# Altium footprint library MAX26404AFOAY&plus_.PcbLib: 1 footprints
Each footprint in its own frame and in the unit in brackets; x right, y up, seen from the top. Pads: shape width x height; smd on the part's side, far side on the other; paste and mask are expansions set on the pad; w line width, h text height; cw(c..) or ccw(c..) is an arc to the next point about the centre after c.
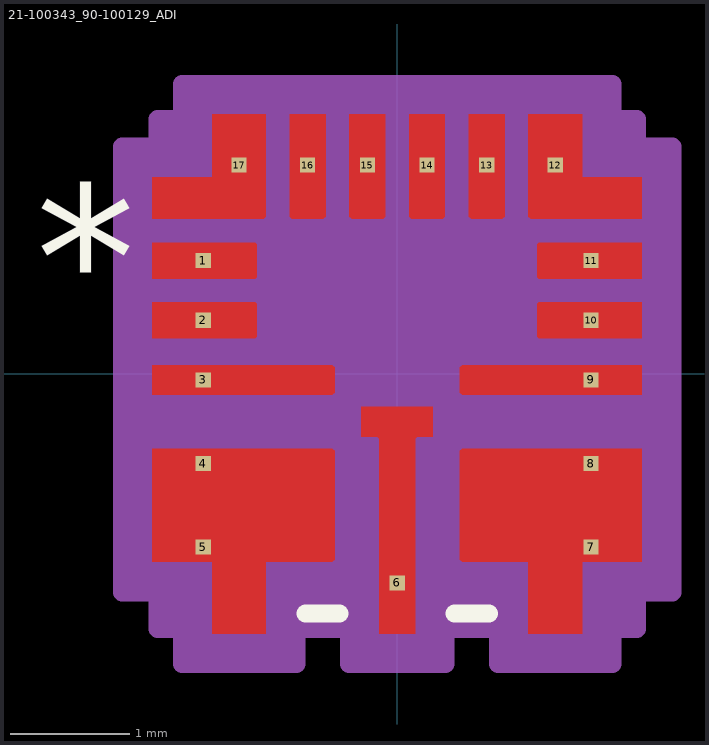
[diagram p0: the footprint, top view; thin cyan lines are the x and y axes]

## 21-100343_90-100129_ADI [mil]
pads (17):
  rect 5x5 smd paste-2.5 mask+0: 1(-63.98,37.4) 2(-63.98,17.72) 3(-63.98,-1.97) 4(-63.98,-29.53) 5(-63.98,-57.09) 6(0,-68.9) 7(63.98,-57.09) 8(63.98,-29.53) 9(63.98,-1.97) 10(63.98,17.72) 11(63.98,37.4) 12(52.17,68.9) 13(29.53,68.9) 14(9.84,68.9) 15(-9.84,68.9) 16(-29.53,68.9) 17(-52.17,68.9)
Top Layer:
  region: 21.41,-24.61 80.71,-24.61 80.71,-62.01 61.02,-62.01 61.02,-85.63 43.31,-85.63 43.31,-62.01 21.41,-62.01 20.67,-61.27 20.67,-25.34
  region: -21.41,-24.61 -80.71,-24.61 -80.71,-62.01 -61.02,-62.01 -61.02,-85.63 -43.31,-85.63 -43.31,-62.01 -21.41,-62.01 -20.67,-61.27 -20.67,-25.34
  region: -15.75,51.92 -15.75,85.63 -3.94,85.63 -3.94,51.92 -4.68,51.18 -15.01,51.18
  region: 3.94,51.92 3.94,85.63 15.75,85.63 15.75,51.92 15.01,51.18 4.68,51.18
  region: 23.62,51.92 23.62,85.63 35.43,85.63 35.43,51.92 34.69,51.18 24.36,51.18
  region: -46.75,43.31 -80.71,43.31 -80.71,31.5 -46.75,31.5 -46.26,31.99 -46.26,42.81
  region: -46.75,23.62 -80.71,23.62 -80.71,11.81 -46.75,11.81 -46.26,12.3 -46.26,23.13
  region: -35.43,51.92 -35.43,85.63 -23.62,85.63 -23.62,51.92 -24.36,51.18 -34.69,51.18
  region: -61.02,64.96 -80.71,64.96 -80.71,51.18 -44.05,51.18 -43.31,51.92 -43.31,85.63 -61.02,85.63
  region: 61.02,64.96 80.71,64.96 80.71,51.18 44.05,51.18 43.31,51.92 43.31,85.63 61.02,85.63
  region: 46.75,43.31 80.71,43.31 80.71,31.5 46.75,31.5 46.26,31.99 46.26,42.81
  region: 46.75,23.62 80.71,23.62 80.71,11.81 46.75,11.81 46.26,12.3 46.26,23.13
  region: 21.41,2.95 80.71,2.95 80.71,-6.89 21.41,-6.89 20.67,-6.15 20.67,2.21
  region: -21.41,2.95 -80.71,2.95 -80.71,-6.89 -21.41,-6.89 -20.67,-6.15 -20.67,2.21
  region: 11.81,-10.83 -11.81,-10.83 -11.81,-20.67 -6.64,-20.67 -5.91,-21.41 -5.91,-85.63 5.91,-85.63 5.91,-21.41 6.64,-20.67 11.81,-20.67
Top Overlay:
  lines w6: -30.21,-79 -19.01,-79 ; 19.01,-79 30.21,-79
  text "*" at -119.19,14.37 h50
Top Paste:
  region: -61.02,64.96 -80.71,64.96 -80.71,51.18 -44.05,51.18 -43.31,51.92 -43.31,85.63 -61.02,85.63
  region: -35.43,51.92 -35.43,85.63 -23.62,85.63 -23.62,51.92 -24.36,51.18 -34.69,51.18
  region: -15.75,51.92 -15.75,85.63 -3.94,85.63 -3.94,51.92 -4.68,51.18 -15.01,51.18
  region: 3.94,51.92 3.94,85.63 15.75,85.63 15.75,51.92 15.01,51.18 4.68,51.18
  region: 23.62,51.92 23.62,85.63 35.43,85.63 35.43,51.92 34.69,51.18 24.36,51.18
  region: 61.02,64.96 80.71,64.96 80.71,51.18 44.05,51.18 43.31,51.92 43.31,85.63 61.02,85.63
  region: 46.75,43.31 80.71,43.31 80.71,31.5 46.75,31.5 46.26,31.99 46.26,42.81
  region: 46.75,23.62 80.71,23.62 80.71,11.81 46.75,11.81 46.26,12.3 46.26,23.13
  region: 21.41,2.95 80.71,2.95 80.71,-6.89 21.41,-6.89 20.67,-6.15 20.67,2.21
  region: 21.41,-24.61 80.71,-24.61 80.71,-62.01 61.02,-62.01 61.02,-85.63 43.31,-85.63 43.31,-62.01 21.41,-62.01 20.67,-61.27 20.67,-25.34
  region: 11.81,-10.83 -11.81,-10.83 -11.81,-20.67 -6.64,-20.67 -5.91,-21.41 -5.91,-85.63 5.91,-85.63 5.91,-21.41 6.64,-20.67 11.81,-20.67
  region: -21.41,-24.61 -80.71,-24.61 -80.71,-62.01 -61.02,-62.01 -61.02,-85.63 -43.31,-85.63 -43.31,-62.01 -21.41,-62.01 -20.67,-61.27 -20.67,-25.34
  region: -21.41,2.95 -80.71,2.95 -80.71,-6.89 -21.41,-6.89 -20.67,-6.15 -20.67,2.21
  region: -46.75,23.62 -80.71,23.62 -80.71,11.81 -46.75,11.81 -46.26,12.3 -46.26,23.13
  region: -46.75,43.31 -80.71,43.31 -80.71,31.5 -46.75,31.5 -46.26,31.99 -46.26,42.81
Top Solder:
  region: -61.02,64.96 -80.71,64.96 -80.71,51.18 -44.05,51.18 -43.31,51.92 -43.31,85.63 -61.02,85.63
  region: -35.43,51.92 -35.43,85.63 -23.62,85.63 -23.62,51.92 -24.36,51.18 -34.69,51.18
  region: -15.75,51.92 -15.75,85.63 -3.94,85.63 -3.94,51.92 -4.68,51.18 -15.01,51.18
  region: 3.94,51.92 3.94,85.63 15.75,85.63 15.75,51.92 15.01,51.18 4.68,51.18
  region: 23.62,51.92 23.62,85.63 35.43,85.63 35.43,51.92 34.69,51.18 24.36,51.18
  region: 61.02,64.96 80.71,64.96 80.71,51.18 44.05,51.18 43.31,51.92 43.31,85.63 61.02,85.63
  region: 46.75,43.31 80.71,43.31 80.71,31.5 46.75,31.5 46.26,31.99 46.26,42.81
  region: 46.75,23.62 80.71,23.62 80.71,11.81 46.75,11.81 46.26,12.3 46.26,23.13
  region: 21.41,2.95 80.71,2.95 80.71,-6.89 21.41,-6.89 20.67,-6.15 20.67,2.21
  region: 21.41,-24.61 80.71,-24.61 80.71,-62.01 61.02,-62.01 61.02,-85.63 43.31,-85.63 43.31,-62.01 21.41,-62.01 20.67,-61.27 20.67,-25.34
  region: 11.81,-10.83 -11.81,-10.83 -11.81,-20.67 -6.64,-20.67 -5.91,-21.41 -5.91,-85.63 5.91,-85.63 5.91,-21.41 6.64,-20.67 11.81,-20.67
  region: -21.41,-24.61 -80.71,-24.61 -80.71,-62.01 -61.02,-62.01 -61.02,-85.63 -43.31,-85.63 -43.31,-62.01 -21.41,-62.01 -20.67,-61.27 -20.67,-25.34
  region: -21.41,2.95 -80.71,2.95 -80.71,-6.89 -21.41,-6.89 -20.67,-6.15 -20.67,2.21
  region: -46.75,23.62 -80.71,23.62 -80.71,11.81 -46.75,11.81 -46.26,12.3 -46.26,23.13
  region: -46.75,43.31 -80.71,43.31 -80.71,31.5 -46.75,31.5 -46.26,31.99 -46.26,42.81
Mechanical 13:
  lines w1: -69,24 -19,74 ; -69,-74 69,-74 69,74 -69,74 -69,-74
  text "*" at -111.04,14.37 h50
Mechanical 15:
  region: -79,-72.01 -79,-84 -71.02,-84 -71.02,-95.63 -33.31,-95.63 -33.31,-84 -15.91,-84 -15.91,-95.63 15.91,-95.63 15.91,-84 33.31,-84 33.31,-95.63 71.02,-95.63 71.02,-84 79,-84 79,-72.01 90.71,-72.01 90.71,-16.89 90.71,12.95 90.71,74.96 79,74.96 79,84 71.02,84 71.02,95.63 -71.02,95.63 -71.02,84 -79,84 -79,74.96 -90.71,74.96 -90.71,12.95 -90.71,-16.89 -90.71,-72.01
  lines w6: -90.71,-16.89 -90.71,12.95 ; -90.71,-16.89 -90.71,-16.89 ; -90.71,-16.89 -90.71,-72.01 -79,-72.01 -79,-84 -71.02,-84 -71.02,-95.63 -33.31,-95.63 -33.31,-84 -15.91,-84 -15.91,-95.63 15.91,-95.63 15.91,-84 33.31,-84 33.31,-95.63 71.02,-95.63 71.02,-84 79,-84 79,-72.01 90.71,-72.01 90.71,-16.89 ; -90.71,12.95 -90.71,74.96 -79,74.96 -79,84 -71.02,84 -71.02,95.63 71.02,95.63 71.02,84 79,84 79,74.96 90.71,74.96 90.71,12.95 ; -90.71,12.95 -90.71,12.95 ; 90.71,-16.89 90.71,-16.89 ; 90.71,-16.89 90.71,12.95 ; 90.71,12.95 90.71,12.95